# Altium footprint library CN_USB_Wuerth_614_004_133_21.PcbLib: 1 footprints
Each footprint in its own frame and in the unit in brackets; x right, y up, seen from the top. Pads: shape width x height; smd on the part's side, far side on the other; paste and mask are expansions set on the pad; w line width, h text height; cw(c..) or ccw(c..) is an arc to the next point about the centre after c.
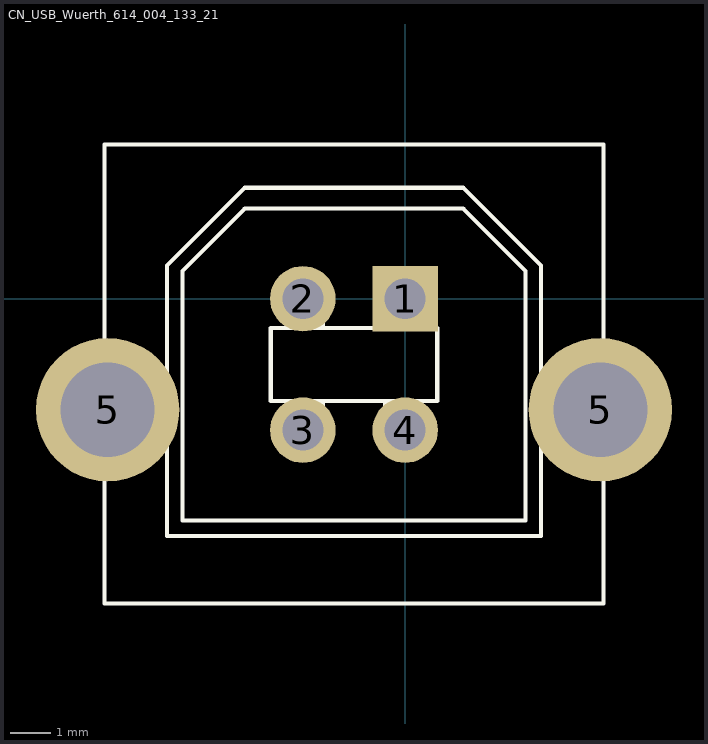
[diagram p0: the footprint, top view; thin cyan lines are the x and y axes]

## CN_USB_Wuerth_614_004_133_21 [mil] "Connector USB B vertical"
pads (6):
  rect 63x63 hole 39.37: 1(0,0)
  round 63 hole 39.37: 2(-98.43,0) 3(-98.43,-126.38) 4(0,-126.38)
  round 138 hole 90.55: 5(-286.21,-106.69) 5(187.79,-106.69)
Top Overlay:
  lines w4: -289.21,-128.19 -299.21,-128.19 -299.21,-83.19 -289.21,-83.19 ; -114.21,-98.19 -114.21,-123.19 -104.21,-123.19 -104.21,-128.19 -89.21,-128.19 -89.21,-123.19 -79.21,-123.19 -79.21,-98.19 ; -114.21,-28.19 -114.21,-8.19 -104.21,-8.19 -104.21,-3.19 -89.21,-3.19 -89.21,-8.19 -79.21,-8.19 -79.21,-28.19 ; -19.21,-98.19 -19.21,-123.19 -9.21,-123.19 -9.21,-128.19 5.79,-128.19 5.79,-123.19 15.79,-123.19 15.79,-98.19 ; -19.21,-28.19 -19.21,-8.19 -9.21,-8.19 -9.21,-3.19 5.79,-3.19 5.79,-8.19 15.79,-8.19 15.79,-28.19 ; 190.79,-128.19 200.79,-128.19 200.79,-83.19 190.79,-83.19 ; -289.21,-293.19 -289.21,148.43 190.79,148.43 190.79,-293.19 -289.21,-293.19 ; -229.21,-228.19 -229.21,31.81 -154.21,106.81 55.79,106.81 130.79,31.81 130.79,-228.19 -229.21,-228.19 ; -214.21,-213.19 -214.21,26.81 -154.21,86.81 55.79,86.81 115.79,26.81 115.79,-213.19 -214.21,-213.19 ; -129.21,-98.19 -129.21,-28.19 30.79,-28.19 30.79,-98.19 -129.21,-98.19
3D body: height 633.86, standoff -166.14, extent -340.55,-292.52 242.12,148.43